# Altium footprint library ledlib.PcbLib: 2 footprints
Each footprint in its own frame and in the unit in brackets; x right, y up, seen from the top. Pads: shape width x height; smd on the part's side, far side on the other; paste and mask are expansions set on the pad; w line width, h text height; cw(c..) or ccw(c..) is an arc to the next point about the centre after c.
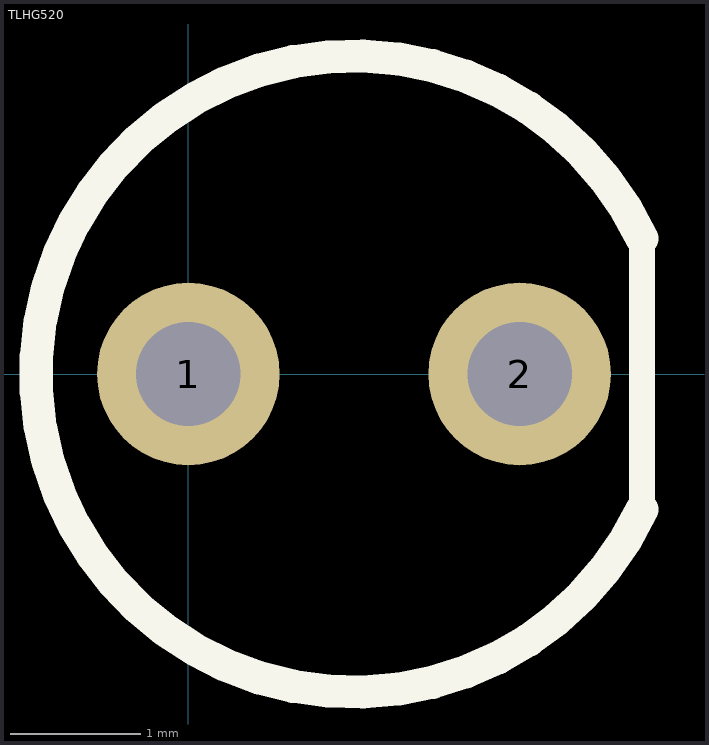
[diagram p0: the footprints below, top view; thin cyan lines are the x and y axes]

## PCBComponent_1 - duplicate [mm]

## TLHG520 [mm]
height 9
pads (2):
  round 1.4 hole 0.8: 1(0,0) 2(2.54,0)
Top Overlay:
  lines w0.2: 3.477,-1.039 3.477,1.039
  lines w0.254: 3.477,-1.039 cw(c1.27,0) 3.477,1.039